# Altium schematic symbol library FC_v2.0_Schlib.SchLib: 45 symbols (part 1 of 2)
Pins are listed as number, name and electrical type; pins without a type are passive.

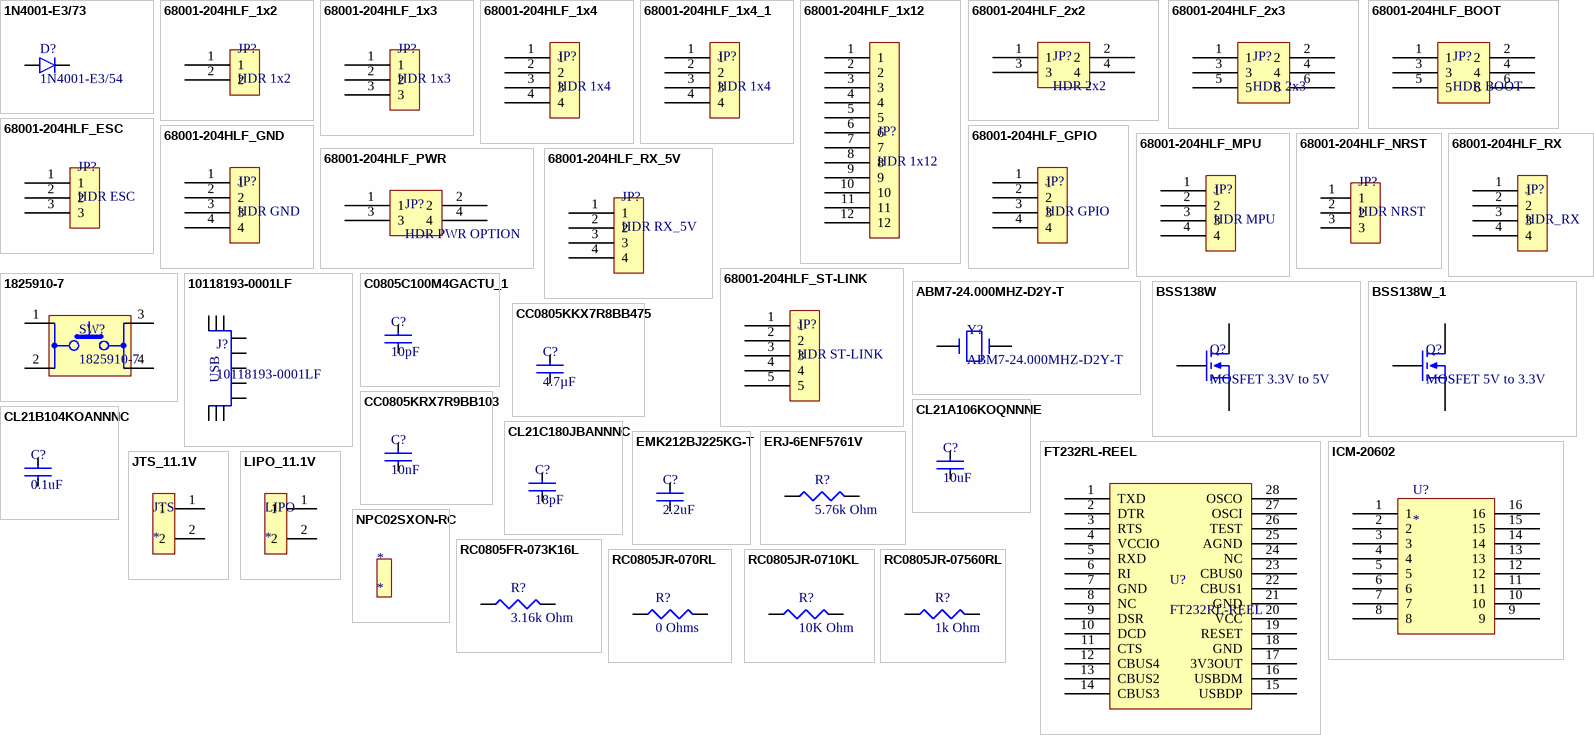
[diagram p0: symbols 1N4001-E3/73 to RC0805JR-07560RL]

## 1N4001-E3/73
designator D?, comment 1N4001-E3/54
Rectifiers Vr/50V Io/1A; Manufacturer: Vishay Semiconductors; Manufacturer Part Number: 1N4001-E3/73; Configuration: Single; Forward Voltage Drop: 1.1 V; Forward Continuous Current: 1 A; Max Surge Current: 30 A; Reverse Voltage: 50 V; Reverse Current IR: 5 uA; Supplier 1: Digi-Key; Stock 1: 13599; Pricing 1: 1=0.26, 10=0.209, 25=0.1752, 100=0.111, 250=0.0856, 500=0.073, 1000=0.0496 (USD); Factory Pack Quantity: 3000; Product Category: Rectifiers; Product: Standard Recovery Rectifiers; Mounting Style: Through Hole; Package / Case: DO-41; Packaging: Ammo; Maximum Operating Temperature: + 150 C; Minimum Operating Temperature: - 50 C; Part # Aliases: 1N4001-E3/54; RoHS: Details; ComponentLink1URL: https://datasheet.ciiva.com/15190/getdatasheetpartid-362633-15190388.pdf; ComponentLink1Description: https://datasheet.ciiva.com/15190/getdatasheetpartid-362633-15190388.pdf; ComponentLink2URL: https://datasheet.ciiva.com/46383/1911658-46383800.pdf; ComponentLink2Description: https://datasheet.ciiva.com/46383/1911658-46383800.pdf; ComponentLink3URL: https://datasheet.ciiva.com/25936/1n4001-25936157.pdf; ComponentLink3Description: https://datasheet.ciiva.com/25936/1n4001-25936157.pdf; ComponentLink4URL: https://datasheet.ciiva.com/22685/1911658-22685727.pdf; ComponentLink4Description: https://datasheet.ciiva.com/22685/1911658-22685727.pdf; Supplier Part Number 1: 1N4001-E3/73GICT-ND
footprint DIODE
pins: 1, 2

## 68001-204HLF_1x2
designator JP?, comment HDR 1x2
4 Positions Header, Unshrouded Connector 0.100" (2.54mm) Through Hole Gold or Gold, GXT™; Manufacturer: Amphenol FCI; Manufacturer Part Number: 68001-204HLF; Rad Hard: No; Number of Contacts: 4; Supplier 1: Digi-Key; Stock 1: 9668; Pricing 1: 1=0.35, 10=0.331, 100=0.2315, 500=0.1985, 1000=0.1654, 5000=0.1418, 10000=0.1323 (USD); Packaging: Bulk; Type: Unshrouded Header; Pitch: 2.54 mm; Number of Rows: 1; Gender: HDR; Contact Plating: Gold Over Nickel|GXT Over Nickel; Termination Method: Solder; Category: Connector Headers and PCB Receptacles; ComponentLink1URL: https://datasheet.ciiva.com/726/68000-726529.pdf; ComponentLink1Description: https://datasheet.ciiva.com/726/68000-726529.pdf; ComponentLink2URL: https://datasheet.ciiva.com/5164/68000-274255-5164127.pdf; ComponentLink2Description: https://datasheet.ciiva.com/5164/68000-274255-5164127.pdf; Supplier Part Number 1: 609-3402-ND
footprint HDR_Male_1x2
pins: 1, 2

## 68001-204HLF_1x3
designator JP?, comment HDR 1x3
4 Positions Header, Unshrouded Connector 0.100" (2.54mm) Through Hole Gold or Gold, GXT™; Manufacturer: Amphenol FCI; Manufacturer Part Number: 68001-204HLF; Rad Hard: No; Number of Contacts: 4; Supplier 1: Digi-Key; Stock 1: 9668; Pricing 1: 1=0.35, 10=0.331, 100=0.2315, 500=0.1985, 1000=0.1654, 5000=0.1418, 10000=0.1323 (USD); Packaging: Bulk; Type: Unshrouded Header; Pitch: 2.54 mm; Number of Rows: 1; Gender: HDR; Contact Plating: Gold Over Nickel|GXT Over Nickel; Termination Method: Solder; Category: Connector Headers and PCB Receptacles; ComponentLink1URL: https://datasheet.ciiva.com/726/68000-726529.pdf; ComponentLink1Description: https://datasheet.ciiva.com/726/68000-726529.pdf; ComponentLink2URL: https://datasheet.ciiva.com/5164/68000-274255-5164127.pdf; ComponentLink2Description: https://datasheet.ciiva.com/5164/68000-274255-5164127.pdf; Supplier Part Number 1: 609-3402-ND
footprint HDR_Male_1x3
pins: 1, 2, 3

## 68001-204HLF_1x4
designator JP?, comment HDR 1x4
4 Positions Header, Unshrouded Connector 0.100" (2.54mm) Through Hole Gold or Gold, GXT™; Manufacturer: Amphenol FCI; Manufacturer Part Number: 68001-204HLF; Rad Hard: No; Number of Contacts: 4; Supplier 1: Digi-Key; Stock 1: 9668; Pricing 1: 1=0.35, 10=0.331, 100=0.2315, 500=0.1985, 1000=0.1654, 5000=0.1418, 10000=0.1323 (USD); Packaging: Bulk; Type: Unshrouded Header; Pitch: 2.54 mm; Number of Rows: 1; Gender: HDR; Contact Plating: Gold Over Nickel|GXT Over Nickel; Termination Method: Solder; Category: Connector Headers and PCB Receptacles; ComponentLink1URL: https://datasheet.ciiva.com/726/68000-726529.pdf; ComponentLink1Description: https://datasheet.ciiva.com/726/68000-726529.pdf; ComponentLink2URL: https://datasheet.ciiva.com/5164/68000-274255-5164127.pdf; ComponentLink2Description: https://datasheet.ciiva.com/5164/68000-274255-5164127.pdf; Supplier Part Number 1: 609-3402-ND
footprint HDR_Male_1x4
pins: 1, 2, 3, 4

## 68001-204HLF_1x4_1
designator JP?, comment HDR 1x4
4 Positions Header, Unshrouded Connector 0.100" (2.54mm) Through Hole Gold or Gold, GXT™; Manufacturer: Amphenol FCI; Manufacturer Part Number: 68001-204HLF; Rad Hard: No; Number of Contacts: 4; Supplier 1: Digi-Key; Stock 1: 9668; Pricing 1: 1=0.35, 10=0.331, 100=0.2315, 500=0.1985, 1000=0.1654, 5000=0.1418, 10000=0.1323 (USD); Packaging: Bulk; Type: Unshrouded Header; Pitch: 2.54 mm; Number of Rows: 1; Gender: HDR; Contact Plating: Gold Over Nickel|GXT Over Nickel; Termination Method: Solder; Category: Connector Headers and PCB Receptacles; ComponentLink1URL: https://datasheet.ciiva.com/726/68000-726529.pdf; ComponentLink1Description: https://datasheet.ciiva.com/726/68000-726529.pdf; ComponentLink2URL: https://datasheet.ciiva.com/5164/68000-274255-5164127.pdf; ComponentLink2Description: https://datasheet.ciiva.com/5164/68000-274255-5164127.pdf; Supplier Part Number 1: 609-3402-ND
footprint HDR_Male_1x4
pins: 1, 2, 3, 4

## 68001-204HLF_1x12
designator JP?, comment HDR 1x12
4 Positions Header, Unshrouded Connector 0.100" (2.54mm) Through Hole Gold or Gold, GXT™; Manufacturer: Amphenol FCI; Manufacturer Part Number: 68001-204HLF; Rad Hard: No; Number of Contacts: 4; Supplier 1: Digi-Key; Stock 1: 9668; Pricing 1: 1=0.35, 10=0.331, 100=0.2315, 500=0.1985, 1000=0.1654, 5000=0.1418, 10000=0.1323 (USD); Packaging: Bulk; Type: Unshrouded Header; Pitch: 2.54 mm; Number of Rows: 1; Gender: HDR; Contact Plating: Gold Over Nickel|GXT Over Nickel; Termination Method: Solder; Category: Connector Headers and PCB Receptacles; ComponentLink1URL: https://datasheet.ciiva.com/726/68000-726529.pdf; ComponentLink1Description: https://datasheet.ciiva.com/726/68000-726529.pdf; ComponentLink2URL: https://datasheet.ciiva.com/5164/68000-274255-5164127.pdf; ComponentLink2Description: https://datasheet.ciiva.com/5164/68000-274255-5164127.pdf; Supplier Part Number 1: 609-3402-ND
footprint HDR_Male_1x12
pins: 1, 2, 3, 4, 5, 6, 7, 8, 9, 10, 11, 12

## 68001-204HLF_2x2
designator JP?, comment HDR 2x2
4 Positions Header, Unshrouded Connector 0.100" (2.54mm) Through Hole Gold or Gold, GXT™; Manufacturer: Amphenol FCI; Manufacturer Part Number: 68001-204HLF; Rad Hard: No; Number of Contacts: 4; Supplier 1: Digi-Key; Stock 1: 9668; Pricing 1: 1=0.35, 10=0.331, 100=0.2315, 500=0.1985, 1000=0.1654, 5000=0.1418, 10000=0.1323 (USD); Packaging: Bulk; Type: Unshrouded Header; Pitch: 2.54 mm; Number of Rows: 1; Gender: HDR; Contact Plating: Gold Over Nickel|GXT Over Nickel; Termination Method: Solder; Category: Connector Headers and PCB Receptacles; ComponentLink1URL: https://datasheet.ciiva.com/726/68000-726529.pdf; ComponentLink1Description: https://datasheet.ciiva.com/726/68000-726529.pdf; ComponentLink2URL: https://datasheet.ciiva.com/5164/68000-274255-5164127.pdf; ComponentLink2Description: https://datasheet.ciiva.com/5164/68000-274255-5164127.pdf; Supplier Part Number 1: 609-3402-ND
footprint HDR_MALE_PWR_OPTION
pins: 1, 2, 3, 4

## 68001-204HLF_2x3
designator JP?, comment HDR 2x3
4 Positions Header, Unshrouded Connector 0.100" (2.54mm) Through Hole Gold or Gold, GXT™; Manufacturer: Amphenol FCI; Manufacturer Part Number: 68001-204HLF; Rad Hard: No; Number of Contacts: 4; Supplier 1: Digi-Key; Stock 1: 9668; Pricing 1: 1=0.35, 10=0.331, 100=0.2315, 500=0.1985, 1000=0.1654, 5000=0.1418, 10000=0.1323 (USD); Packaging: Bulk; Type: Unshrouded Header; Pitch: 2.54 mm; Number of Rows: 1; Gender: HDR; Contact Plating: Gold Over Nickel|GXT Over Nickel; Termination Method: Solder; Category: Connector Headers and PCB Receptacles; ComponentLink1URL: https://datasheet.ciiva.com/726/68000-726529.pdf; ComponentLink1Description: https://datasheet.ciiva.com/726/68000-726529.pdf; ComponentLink2URL: https://datasheet.ciiva.com/5164/68000-274255-5164127.pdf; ComponentLink2Description: https://datasheet.ciiva.com/5164/68000-274255-5164127.pdf; Supplier Part Number 1: 609-3402-ND
footprint HDR_MALE_2x3
pins: 1, 2, 3, 4, 5, 6

## 68001-204HLF_BOOT
designator JP?, comment HDR BOOT
4 Positions Header, Unshrouded Connector 0.100" (2.54mm) Through Hole Gold or Gold, GXT™; Manufacturer: Amphenol FCI; Manufacturer Part Number: 68001-204HLF; Rad Hard: No; Number of Contacts: 4; Supplier 1: Digi-Key; Stock 1: 9668; Pricing 1: 1=0.35, 10=0.331, 100=0.2315, 500=0.1985, 1000=0.1654, 5000=0.1418, 10000=0.1323 (USD); Packaging: Bulk; Type: Unshrouded Header; Pitch: 2.54 mm; Number of Rows: 1; Gender: HDR; Contact Plating: Gold Over Nickel|GXT Over Nickel; Termination Method: Solder; Category: Connector Headers and PCB Receptacles; ComponentLink1URL: https://datasheet.ciiva.com/726/68000-726529.pdf; ComponentLink1Description: https://datasheet.ciiva.com/726/68000-726529.pdf; ComponentLink2URL: https://datasheet.ciiva.com/5164/68000-274255-5164127.pdf; ComponentLink2Description: https://datasheet.ciiva.com/5164/68000-274255-5164127.pdf; Supplier Part Number 1: 609-3402-ND
footprint HDR_MALE_BOOT
pins: 1, 2, 3, 4, 5, 6

## 68001-204HLF_ESC
designator JP?, comment HDR ESC
4 Positions Header, Unshrouded Connector 0.100" (2.54mm) Through Hole Gold or Gold, GXT™; Manufacturer: Amphenol FCI; Manufacturer Part Number: 68001-204HLF; Rad Hard: No; Number of Contacts: 4; Supplier 1: Digi-Key; Stock 1: 9668; Pricing 1: 1=0.35, 10=0.331, 100=0.2315, 500=0.1985, 1000=0.1654, 5000=0.1418, 10000=0.1323 (USD); Packaging: Bulk; Type: Unshrouded Header; Pitch: 2.54 mm; Number of Rows: 1; Gender: HDR; Contact Plating: Gold Over Nickel|GXT Over Nickel; Termination Method: Solder; Category: Connector Headers and PCB Receptacles; ComponentLink1URL: https://datasheet.ciiva.com/726/68000-726529.pdf; ComponentLink1Description: https://datasheet.ciiva.com/726/68000-726529.pdf; ComponentLink2URL: https://datasheet.ciiva.com/5164/68000-274255-5164127.pdf; ComponentLink2Description: https://datasheet.ciiva.com/5164/68000-274255-5164127.pdf; Supplier Part Number 1: 609-3402-ND
footprint HDR_Male_ESC
pins: 1, 2, 3

## 68001-204HLF_GND
designator JP?, comment HDR GND
4 Positions Header, Unshrouded Connector 0.100" (2.54mm) Through Hole Gold or Gold, GXT™; Manufacturer: Amphenol FCI; Manufacturer Part Number: 68001-204HLF; Rad Hard: No; Number of Contacts: 4; Supplier 1: Digi-Key; Stock 1: 9668; Pricing 1: 1=0.35, 10=0.331, 100=0.2315, 500=0.1985, 1000=0.1654, 5000=0.1418, 10000=0.1323 (USD); Packaging: Bulk; Type: Unshrouded Header; Pitch: 2.54 mm; Number of Rows: 1; Gender: HDR; Contact Plating: Gold Over Nickel|GXT Over Nickel; Termination Method: Solder; Category: Connector Headers and PCB Receptacles; ComponentLink1URL: https://datasheet.ciiva.com/726/68000-726529.pdf; ComponentLink1Description: https://datasheet.ciiva.com/726/68000-726529.pdf; ComponentLink2URL: https://datasheet.ciiva.com/5164/68000-274255-5164127.pdf; ComponentLink2Description: https://datasheet.ciiva.com/5164/68000-274255-5164127.pdf; Supplier Part Number 1: 609-3402-ND
footprint HDR_Male_GND
pins: 1, 2, 3, 4

## 68001-204HLF_GPIO
designator JP?, comment HDR GPIO
4 Positions Header, Unshrouded Connector 0.100" (2.54mm) Through Hole Gold or Gold, GXT™; Manufacturer: Amphenol FCI; Manufacturer Part Number: 68001-204HLF; Rad Hard: No; Number of Contacts: 4; Supplier 1: Digi-Key; Stock 1: 9668; Pricing 1: 1=0.35, 10=0.331, 100=0.2315, 500=0.1985, 1000=0.1654, 5000=0.1418, 10000=0.1323 (USD); Packaging: Bulk; Type: Unshrouded Header; Pitch: 2.54 mm; Number of Rows: 1; Gender: HDR; Contact Plating: Gold Over Nickel|GXT Over Nickel; Termination Method: Solder; Category: Connector Headers and PCB Receptacles; ComponentLink1URL: https://datasheet.ciiva.com/726/68000-726529.pdf; ComponentLink1Description: https://datasheet.ciiva.com/726/68000-726529.pdf; ComponentLink2URL: https://datasheet.ciiva.com/5164/68000-274255-5164127.pdf; ComponentLink2Description: https://datasheet.ciiva.com/5164/68000-274255-5164127.pdf; Supplier Part Number 1: 609-3402-ND
footprint HDR_Male_GPIO
pins: 1, 2, 3, 4

## 68001-204HLF_MPU
designator JP?, comment HDR MPU
4 Positions Header, Unshrouded Connector 0.100" (2.54mm) Through Hole Gold or Gold, GXT™; Manufacturer: Amphenol FCI; Manufacturer Part Number: 68001-204HLF; Rad Hard: No; Number of Contacts: 4; Supplier 1: Digi-Key; Stock 1: 9668; Pricing 1: 1=0.35, 10=0.331, 100=0.2315, 500=0.1985, 1000=0.1654, 5000=0.1418, 10000=0.1323 (USD); Packaging: Bulk; Type: Unshrouded Header; Pitch: 2.54 mm; Number of Rows: 1; Gender: HDR; Contact Plating: Gold Over Nickel|GXT Over Nickel; Termination Method: Solder; Category: Connector Headers and PCB Receptacles; ComponentLink1URL: https://datasheet.ciiva.com/726/68000-726529.pdf; ComponentLink1Description: https://datasheet.ciiva.com/726/68000-726529.pdf; ComponentLink2URL: https://datasheet.ciiva.com/5164/68000-274255-5164127.pdf; ComponentLink2Description: https://datasheet.ciiva.com/5164/68000-274255-5164127.pdf; Supplier Part Number 1: 609-3402-ND
footprint HDR_Male_MPU
pins: 1, 2, 3, 4

## 68001-204HLF_NRST
designator JP?, comment HDR NRST
4 Positions Header, Unshrouded Connector 0.100" (2.54mm) Through Hole Gold or Gold, GXT™; Manufacturer: Amphenol FCI; Manufacturer Part Number: 68001-204HLF; Rad Hard: No; Number of Contacts: 4; Supplier 1: Digi-Key; Stock 1: 9668; Pricing 1: 1=0.35, 10=0.331, 100=0.2315, 500=0.1985, 1000=0.1654, 5000=0.1418, 10000=0.1323 (USD); Packaging: Bulk; Type: Unshrouded Header; Pitch: 2.54 mm; Number of Rows: 1; Gender: HDR; Contact Plating: Gold Over Nickel|GXT Over Nickel; Termination Method: Solder; Category: Connector Headers and PCB Receptacles; ComponentLink1URL: https://datasheet.ciiva.com/726/68000-726529.pdf; ComponentLink1Description: https://datasheet.ciiva.com/726/68000-726529.pdf; ComponentLink2URL: https://datasheet.ciiva.com/5164/68000-274255-5164127.pdf; ComponentLink2Description: https://datasheet.ciiva.com/5164/68000-274255-5164127.pdf; Supplier Part Number 1: 609-3402-ND
footprint HDR_Male_NRST
pins: 1, 2, 3

## 68001-204HLF_PWR
designator JP?, comment HDR PWR OPTION
4 Positions Header, Unshrouded Connector 0.100" (2.54mm) Through Hole Gold or Gold, GXT™; Manufacturer: Amphenol FCI; Manufacturer Part Number: 68001-204HLF; Rad Hard: No; Number of Contacts: 4; Supplier 1: Digi-Key; Stock 1: 9668; Pricing 1: 1=0.35, 10=0.331, 100=0.2315, 500=0.1985, 1000=0.1654, 5000=0.1418, 10000=0.1323 (USD); Packaging: Bulk; Type: Unshrouded Header; Pitch: 2.54 mm; Number of Rows: 1; Gender: HDR; Contact Plating: Gold Over Nickel|GXT Over Nickel; Termination Method: Solder; Category: Connector Headers and PCB Receptacles; ComponentLink1URL: https://datasheet.ciiva.com/726/68000-726529.pdf; ComponentLink1Description: https://datasheet.ciiva.com/726/68000-726529.pdf; ComponentLink2URL: https://datasheet.ciiva.com/5164/68000-274255-5164127.pdf; ComponentLink2Description: https://datasheet.ciiva.com/5164/68000-274255-5164127.pdf; Supplier Part Number 1: 609-3402-ND
footprint HDR_MALE_PWR_OPTION
pins: 1, 2, 3, 4

## 68001-204HLF_RX
designator JP?, comment HDR_RX
4 Positions Header, Unshrouded Connector 0.100" (2.54mm) Through Hole Gold or Gold, GXT™; Manufacturer: Amphenol FCI; Manufacturer Part Number: 68001-204HLF; Rad Hard: No; Number of Contacts: 4; Gender: HDR; Supplier 1: Digi-Key; Stock 1: 9668; Pricing 1: 1=0.35, 10=0.331, 100=0.2315, 500=0.1985, 1000=0.1654, 5000=0.1418, 10000=0.1323 (USD); Packaging: Bulk; Type: Unshrouded Header; Pitch: 2.54 mm; Number of Rows: 1; Contact Plating: Gold Over Nickel|GXT Over Nickel; Termination Method: Solder; Category: Connector Headers and PCB Receptacles; ComponentLink1URL: https://datasheet.ciiva.com/726/68000-726529.pdf; ComponentLink1Description: https://datasheet.ciiva.com/726/68000-726529.pdf; ComponentLink2URL: https://datasheet.ciiva.com/5164/68000-274255-5164127.pdf; ComponentLink2Description: https://datasheet.ciiva.com/5164/68000-274255-5164127.pdf; Supplier Part Number 1: 609-3402-ND
footprint HDR_Male_RX
pins: 1, 2, 3, 4

## 68001-204HLF_RX_5V
designator JP?, comment HDR RX_5V
4 Positions Header, Unshrouded Connector 0.100" (2.54mm) Through Hole Gold or Gold, GXT™; Manufacturer: Amphenol FCI; Manufacturer Part Number: 68001-204HLF; Rad Hard: No; Number of Contacts: 4; Supplier 1: Digi-Key; Stock 1: 9668; Pricing 1: 1=0.35, 10=0.331, 100=0.2315, 500=0.1985, 1000=0.1654, 5000=0.1418, 10000=0.1323 (USD); Packaging: Bulk; Type: Unshrouded Header; Pitch: 2.54 mm; Number of Rows: 1; Gender: HDR; Contact Plating: Gold Over Nickel|GXT Over Nickel; Termination Method: Solder; Category: Connector Headers and PCB Receptacles; ComponentLink1URL: https://datasheet.ciiva.com/726/68000-726529.pdf; ComponentLink1Description: https://datasheet.ciiva.com/726/68000-726529.pdf; ComponentLink2URL: https://datasheet.ciiva.com/5164/68000-274255-5164127.pdf; ComponentLink2Description: https://datasheet.ciiva.com/5164/68000-274255-5164127.pdf; Supplier Part Number 1: 609-3402-ND
footprint HDR_Male_RX_5V
pins: 1, 2, 3, 4

## 68001-204HLF_ST-LINK
designator JP?, comment HDR ST-LINK
4 Positions Header, Unshrouded Connector 0.100" (2.54mm) Through Hole Gold or Gold, GXT™; Manufacturer: Amphenol FCI; Manufacturer Part Number: 68001-204HLF; Rad Hard: No; Number of Contacts: 4; Supplier 1: Digi-Key; Stock 1: 9668; Pricing 1: 1=0.35, 10=0.331, 100=0.2315, 500=0.1985, 1000=0.1654, 5000=0.1418, 10000=0.1323 (USD); Packaging: Bulk; Type: Unshrouded Header; Pitch: 2.54 mm; Number of Rows: 1; Gender: HDR; Contact Plating: Gold Over Nickel|GXT Over Nickel; Termination Method: Solder; Category: Connector Headers and PCB Receptacles; ComponentLink1URL: https://datasheet.ciiva.com/726/68000-726529.pdf; ComponentLink1Description: https://datasheet.ciiva.com/726/68000-726529.pdf; ComponentLink2URL: https://datasheet.ciiva.com/5164/68000-274255-5164127.pdf; ComponentLink2Description: https://datasheet.ciiva.com/5164/68000-274255-5164127.pdf; Supplier Part Number 1: 609-3402-ND
footprint HDR_Male_ST-LINK
pins: 1, 2, 3, 4, 5

## 1825910-7
designator SW?
Switch Tactile OFF (ON) SPST Round Button PC Pins 0.05A 24VDC 100000Cycles 2.55N Thru-Hole Loose Piece; Manufacturer: TE Connectivity; Actuator Color: Red; Actuator Length: 1.4 mm; Body Orientation: Straight; Ground Terminal: No; Dielectric Strength: 500 VAC; Contact Rating @ Voltage: 0.05@24VDC A; Maximum DC Voltage Rating: 24 V; Seal Description: N/R; Maximum Contact Resistance: 100 mOhm; Supplier 1: Digi-Key; Manufacturer Part Number: 1825910-7; Stock 1: 68629; Pricing 1: 1=0.1, 10=0.086, 25=0.0832, 50=0.0804, 100=0.0759, 250=0.0715, 500=0.0685, 1000=0.0521, 5000=0.0432 (USD); Contact Material: Copper Alloy; Base Material: N/A; Actuator Style: Round Button; Family: 1825910; Contact Plating: Silver; Electrical Life: 100000 Cycles; Housing Material: N/A; Dimension: 5.99 x 7.8 x 5 mm; Part No: 1825910-7; RoHS: Yes; Maximum AC Voltage Rating: N/A; Pole Throw Configuration: SPST; Mechanical Life: 100000 Cycles; Packaging: Loose Piece; Illumination Type: N/R; Product Weight: N/A; Mounting: Through Hole,PC Pins; Operating Force: 2.55 N; Minimum Insulation Resistance: 100 MOhm; Operating Temperature: -35 to 85 C; Type: N/A; Switch Configuration: OFF (ON); Seal Location: N/R; ComponentLink1URL: https://datasheet.ciiva.com/30117/17-30117153.pdf; ComponentLink1Description: https://datasheet.ciiva.com/30117/17-30117153.pdf; ComponentLink2URL: https://datasheet.ciiva.com/16312/1825910-7-16312610.pdf; ComponentLink2Description: https://datasheet.ciiva.com/16312/1825910-7-16312610.pdf; ComponentLink3URL: https://datasheet.ciiva.com/16987/0900766b808a3755-16987820.pdf; ComponentLink3Description: https://datasheet.ciiva.com/16987/0900766b808a3755-16987820.pdf; Supplier Part Number 1: 450-1804-ND
footprint 1825910-6
pins: 1, 2, 3, 4

## 10118193-0001LF
designator J?
USB - micro B USB 2.0 Receptacle Connector 5 Position Surface Mount, Right Angle, Horizontal; Manufacturer: Amphenol FCI; Number of Contacts: 5 Contact; Gender: Female; Current Rating: 1.8 A; Brand: FCI; Connector Type: Micro USB Type B receptacle; Insulation Resistance: 1000 MOhms; Supplier 1: Digi-Key; Manufacturer Part Number: 10118193-0001LF; Stock 1: 72264; Pricing 1: 1=0.46, 10=0.437, 25=0.3744, 50=0.318, 100=0.3056, 250=0.2744, 500=0.262 (USD); Product Category: USB Connectors; RoHS: Details; Product: Micro USB Type B Connectors; Standard: USB 2.0; Termination Style: SMD/SMT; Color: Black; Contact Material: Copper Alloy; Contact Plating: Gold; Flammability Rating: UL 94 V-0; Mounting Angle: Right; Operating Temperature Range: - 55 C to + 85 C; Packaging: Reel; Factory Pack Quantity: 1200; ComponentLink1URL: https://datasheet.ciiva.com/851/10118193-851106.pdf; ComponentLink1Description: https://datasheet.ciiva.com/851/10118193-851106.pdf; ComponentLink2URL: https://datasheet.ciiva.com/14802/10118193-0001lf-webpage-14802386.pdf; ComponentLink2Description: https://datasheet.ciiva.com/14802/10118193-0001lf-webpage-14802386.pdf; ComponentLink3URL: https://datasheet.ciiva.com/851/10118193-851107.pdf; ComponentLink3Description: https://datasheet.ciiva.com/851/10118193-851107.pdf; ComponentLink4URL: https://datasheet.ciiva.com/851/10118193-851108.pdf; ComponentLink4Description: https://datasheet.ciiva.com/851/10118193-851108.pdf; ComponentLink5URL: https://datasheet.ciiva.com/26853/getdatasheetpartid-418618-26853893.pdf; ComponentLink5Description: https://datasheet.ciiva.com/26853/getdatasheetpartid-418618-26853893.pdf; ComponentLink6URL: https://datasheet.ciiva.com/14618/70236827-14618887.pdf; ComponentLink6Description: https://datasheet.ciiva.com/14618/70236827-14618887.pdf; ComponentLink7URL: https://datasheet.ciiva.com/4598/10118193ac-197151-4598799.pdf; ComponentLink7Description: https://datasheet.ciiva.com/4598/10118193ac-197151-4598799.pdf; Supplier Part Number 1: 609-4616-1-ND
footprint 10118193
pins: 1, 2, 3, 4, 5, 6, 7, 8, 9, 10, 11
text: USB

## ABM7-24.000MHZ-D2Y-T
designator Y?
ABRACON         ABM7-24.000MHZ-D2Y-T             CRYSTAL, 24MHZ, 18PF, 6 X 3.5MM; Catalog Drawings: ABM7 Series Top / ABM7 Series Side / ABM7 Series Bottom; Featured Product: ABM7 and ABM11 Crystals; 3D Model: ABM7.pdf / ABM7.stp; Frequency Stability: ±30ppm; Frequency Tolerance: ±20ppm; ESR (Equivalent Series Resistance): 50 Ohm; Operating Mode: Fundamental; Online Catalog: ABM7 Series; Other Names: 535-9845-1; Supplier 1: Digi-Key; Manufacturer: Abracon; Manufacturer Part Number: ABM7-24.000MHZ-D2Y-T; Stock 1: 33141; Pricing 1: 1=0.72, 10=0.633, 50=0.5912, 100=0.5225, 500=0.495 (USD); RoHS Information: RoHS2/REACH Compliance; Standard Package: 1; Category: Crystals and Oscillators; Family: Crystals; Series: ABM7; Packaging: Cut Tape (CT); Type: MHz Crystal; Frequency: 24MHz; Load Capacitance: 18pF; Operating Temperature: -40°C ~ 85°C; Mounting Type: Surface Mount; Package / Case: 2-SMD; Size / Dimension: 0.236" L x 0.138" W (6.00mm x 3.50mm); Height: 0.055" (1.40mm); ComponentLink1URL: https://datasheet.ciiva.com/15116/getdatasheetpartid-635354-15116657.pdf; ComponentLink1Description: https://datasheet.ciiva.com/15116/getdatasheetpartid-635354-15116657.pdf; ComponentLink2URL: https://datasheet.ciiva.com/29882/abm10-29882758.pdf; ComponentLink2Description: https://datasheet.ciiva.com/29882/abm10-29882758.pdf; ComponentLink3URL: https://datasheet.ciiva.com/46394/947971-46394791.pdf; ComponentLink3Description: https://datasheet.ciiva.com/46394/947971-46394791.pdf; ComponentLink4URL: https://datasheet.ciiva.com/4944/abm7-19096-4944473.pdf; ComponentLink4Description: https://datasheet.ciiva.com/4944/abm7-19096-4944473.pdf; ComponentLink5URL: https://datasheet.ciiva.com/1357/947971-1357274.pdf; ComponentLink5Description: https://datasheet.ciiva.com/1357/947971-1357274.pdf; ComponentLink6URL: https://datasheet.ciiva.com/18649/abm7-18649883.pdf; ComponentLink6Description: https://datasheet.ciiva.com/18649/abm7-18649883.pdf; ComponentLink7URL: https://datasheet.ciiva.com/16741/abm7-16741964.pdf; ComponentLink7Description: https://datasheet.ciiva.com/16741/abm7-16741964.pdf; ComponentLink8URL: https://datasheet.ciiva.com/18649/abm7-18649884.pdf; ComponentLink8Description: https://datasheet.ciiva.com/18649/abm7-18649884.pdf; ComponentLink9URL: https://datasheet.ciiva.com/18649/abm7-18649885.pdf; ComponentLink9Description: https://datasheet.ciiva.com/18649/abm7-18649885.pdf; ComponentLink10URL: https://datasheet.ciiva.com/7998/947971-7998607.pdf; ComponentLink10Description: https://datasheet.ciiva.com/7998/947971-7998607.pdf; Supplier Part Number 1: 535-9845-1-ND
footprint AMB7_v1_0_BIG
pins: 1, 2

## BSS138W
designator Q?, comment MOSFET 3.3V to 5V
MOSFET 50V N-CH Logic Level; Manufacturer: Fairchild Semiconductor; Manufacturer Part Number: BSS138W; Channel Type: N-Channel; Drain-Source On Resistance-Max: 3.5 O; Qg Gate Charge: 1.1 nC; Rated Power Dissipation: 340 mW; Supplier 1: Digi-Key; Stock 1: 13378; Pricing 1: 1=0.44, 10=0.317, 100=0.1867, 500=0.1057, 1000=0.081 (USD); Drain-to-Source Voltage [Vdss]: 50 V; ComponentLink1URL: https://datasheet.ciiva.com/17170/bss138w-17170739.pdf; ComponentLink1Description: https://datasheet.ciiva.com/17170/bss138w-17170739.pdf; ComponentLink2URL: https://datasheet.ciiva.com/8115/bss138w-8115367.pdf; ComponentLink2Description: https://datasheet.ciiva.com/8115/bss138w-8115367.pdf; ComponentLink3URL: https://datasheet.ciiva.com/15043/bss138w-15043927.pdf; ComponentLink3Description: https://datasheet.ciiva.com/15043/bss138w-15043927.pdf; ComponentLink4URL: https://datasheet.ciiva.com/15043/bss138w-15043928.pdf; ComponentLink4Description: https://datasheet.ciiva.com/15043/bss138w-15043928.pdf; ComponentLink5URL: https://datasheet.ciiva.com/15043/bss138w-15043929.pdf; ComponentLink5Description: https://datasheet.ciiva.com/15043/bss138w-15043929.pdf; ComponentLink6URL: https://datasheet.ciiva.com/8115/bss138w-8115370.pdf; ComponentLink6Description: https://datasheet.ciiva.com/8115/bss138w-8115370.pdf; ComponentLink7URL: https://datasheet.ciiva.com/26146/bss138w-26146843.pdf; ComponentLink7Description: https://datasheet.ciiva.com/26146/bss138w-26146843.pdf; ComponentLink8URL: https://datasheet.ciiva.com/13042/bss138w-91619-13042909.pdf; ComponentLink8Description: https://datasheet.ciiva.com/13042/bss138w-91619-13042909.pdf; Supplier Part Number 1: BSS138WCT-ND
footprint MOSFET
pins: 1, 2, 3

## BSS138W_1
designator Q?, comment MOSFET 5V to 3.3V
MOSFET 50V N-CH Logic Level; Manufacturer: Fairchild Semiconductor; Manufacturer Part Number: BSS138W; Channel Type: N-Channel; Drain-Source On Resistance-Max: 3.5 O; Qg Gate Charge: 1.1 nC; Rated Power Dissipation: 340 mW; Supplier 1: Digi-Key; Stock 1: 13378; Pricing 1: 1=0.44, 10=0.317, 100=0.1867, 500=0.1057, 1000=0.081 (USD); Drain-to-Source Voltage [Vdss]: 50 V; ComponentLink1URL: https://datasheet.ciiva.com/17170/bss138w-17170739.pdf; ComponentLink1Description: https://datasheet.ciiva.com/17170/bss138w-17170739.pdf; ComponentLink2URL: https://datasheet.ciiva.com/8115/bss138w-8115367.pdf; ComponentLink2Description: https://datasheet.ciiva.com/8115/bss138w-8115367.pdf; ComponentLink3URL: https://datasheet.ciiva.com/15043/bss138w-15043927.pdf; ComponentLink3Description: https://datasheet.ciiva.com/15043/bss138w-15043927.pdf; ComponentLink4URL: https://datasheet.ciiva.com/15043/bss138w-15043928.pdf; ComponentLink4Description: https://datasheet.ciiva.com/15043/bss138w-15043928.pdf; ComponentLink5URL: https://datasheet.ciiva.com/15043/bss138w-15043929.pdf; ComponentLink5Description: https://datasheet.ciiva.com/15043/bss138w-15043929.pdf; ComponentLink6URL: https://datasheet.ciiva.com/8115/bss138w-8115370.pdf; ComponentLink6Description: https://datasheet.ciiva.com/8115/bss138w-8115370.pdf; ComponentLink7URL: https://datasheet.ciiva.com/26146/bss138w-26146843.pdf; ComponentLink7Description: https://datasheet.ciiva.com/26146/bss138w-26146843.pdf; ComponentLink8URL: https://datasheet.ciiva.com/13042/bss138w-91619-13042909.pdf; ComponentLink8Description: https://datasheet.ciiva.com/13042/bss138w-91619-13042909.pdf; Supplier Part Number 1: BSS138WCT-ND
footprint MOSFET
pins: 1, 2, 3

## C0805C100M4GACTU_1
designator C?, comment 10pF
Multilayer Ceramic Capacitors MLCC - SMD/SMT 16volts 10pF C0G 20%; Manufacturer: KEMET; Manufacturer Part Number: C0805C100M4GACTU; Capacitor Case Style: 0805 [2012 Metric]; Dielectric Characteristic: C0G / NP0; Product Range: KEMET - C Series; SVHC: No SVHC (16-Jun-2014); Voltage Rating: 16V; Supplier 1: Digi-Key; Stock 1: 12641; Pricing 1: 1=0.1, 10=0.064, 100=0.0285, 500=0.0204, 1000=0.016 (USD); Capacitance: 10pF; Capacitance Tolerance: ± 20%; Ceramic Capacitor Case: 0805 [2012 Metric]; MSL: MSL 1 - Unlimited; Operating Temperature Max: 125°C; Operating Temperature Min: -55°C; Packaging: Cut Tape; ComponentLink1URL: http://www.kemet.com/Lists/ProductCatalog/Attachments/46/KEM_C1003_C0G_SMD.pdf; ComponentLink1Description: http://www.kemet.com/Lists/ProductCatalog/Attachments/46/KEM_C1003_C0G_SMD.pdf; ComponentLink2URL: http://www.kemet.com/docfinder?Partnumber=C0805C100M4GACTU; ComponentLink2Description: http://www.kemet.com/docfinder?Partnumber=C0805C100M4GACTU; ComponentLink3URL: http://capacitoredge.kemet.com/capedge2/DataSheet?pn=C0805C100M4GACTU; ComponentLink3Description: http://capacitoredge.kemet.com/capedge2/DataSheet?pn=C0805C100M4GACTU; Supplier Part Number 1: 399-9147-1-ND
footprint C0805
pins: 1, 2

## CC0805KKX7R8BB475
designator C?, comment 4.7µF
Multilayer Ceramic Capacitors MLCC - SMD/SMT 4.7M pF 10% 25 Volts; Manufacturer: Yageo; Manufacturer Part Number: CC0805KKX7R8BB475; Voltage - Rated: 25V; Temperature Coefficient: X7R; Supplier 1: Digi-Key; Stock 1: 8314; Pricing 1: 1=0.38, 10=0.263, 100=0.1578, 500=0.1183, 1000=0.0999 (USD); Category: Capacitors; Family: Ceramic Capacitors; Series: CC; Packaging: Tape &amp; Reel (TR); Capacitance: 4.7µF; Tolerance: ±10%; Mounting Type: Surface Mount, MLCC; Operating Temperature: -55°C ~ 125°C; Applications: General Purpose; Ratings: -; Package / Case: 0805 (2012 Metric); Size / Dimension: 0.079" L x 0.049" W (2.00mm x 1.25mm); Height - Seated (Max): -; Thickness (Max): 0.057" (1.45mm); Lead Spacing: -; Features: -; Lead Style: -; ComponentLink1URL: http://www.mouser.com/ds/2/447/Yageo_UPY-GP_NP0_16V-to-50V_9-358835.pdf; ComponentLink1Description: http://www.mouser.com/ds/2/447/Yageo_UPY-GP_NP0_16V-to-50V_9-358835.pdf; ComponentLink2URL: http://www.yageo.com/documents/recent/UPY-GPHC_X7R_6.3V-to-50V_18.pdf; ComponentLink2Description: http://www.yageo.com/documents/recent/UPY-GPHC_X7R_6.3V-to-50V_18.pdf; Supplier Part Number 1: 311-1885-1-ND
footprint C0805
pins: 1, 2

## CC0805KRX7R9BB103
designator C?, comment 10nF
CAP CER 10000PF 50V X7R 0805; Manufacturer: Yageo; Manufacturer Part Number: CC0805KRX7R9BB103; Product Training Modules: Multilayer Ceramic Capacitors; Catalog Drawings: CC_0805_0.6; Featured Product: Commodity Multilayer Ceramic Capacitors – CC Series; Tolerance: ±10%; Online Catalog: CC Series; Other Names: 311-1136-6; Supplier 1: Digi-Key; Stock 1: 1187328; Pricing 1: 1=0.1, 10=0.035, 100=0.0158, 500=0.0113, 1000=0.0089 (USD); Standard Package: 1; Category: Capacitors; Family: Ceramic Capacitors; Series: CC; Packaging: Digi-Reel®; Capacitance: 10000pF; Voltage - Rated: 50V; Temperature Coefficient: X7R; Mounting Type: Surface Mount, MLCC; Operating Temperature: -55°C ~ 125°C; Applications: General Purpose; Ratings: -; Package / Case: 0805 (2012 Metric); Size / Dimension: 0.079" L x 0.049" W (2.00mm x 1.25mm); Height - Seated (Max): -; Thickness (Max): 0.024" (0.60mm); Lead Spacing: -; Features: -; Lead Style: -; ComponentLink1URL: https://datasheet.ciiva.com/144/mlccorderingcode-144532.pdf; ComponentLink1Description: https://datasheet.ciiva.com/144/mlccorderingcode-144532.pdf; ComponentLink2URL: https://datasheet.ciiva.com/144/mlccorderingcode-144533.pdf; ComponentLink2Description: https://datasheet.ciiva.com/144/mlccorderingcode-144533.pdf; ComponentLink3URL: https://datasheet.ciiva.com/144/mlccorderingcode-144534.pdf; ComponentLink3Description: https://datasheet.ciiva.com/144/mlccorderingcode-144534.pdf; ComponentLink4URL: https://datasheet.ciiva.com/11786/0900766b80d84f1d-11786119.pdf; ComponentLink4Description: https://datasheet.ciiva.com/11786/0900766b80d84f1d-11786119.pdf; ComponentLink5URL: https://datasheet.ciiva.com/25613/0900766b8027bcf6-25613113.pdf; ComponentLink5Description: https://datasheet.ciiva.com/25613/0900766b8027bcf6-25613113.pdf; ComponentLink6URL: https://datasheet.ciiva.com/16625/upy-gphc-x7r-6-3v-to-50v-8-16625548.pdf; ComponentLink6Description: https://datasheet.ciiva.com/16625/upy-gphc-x7r-6-3v-to-50v-8-16625548.pdf; ComponentLink7URL: https://datasheet.ciiva.com/46372/1784427-46372638.pdf; ComponentLink7Description: https://datasheet.ciiva.com/46372/1784427-46372638.pdf; ComponentLink8URL: https://datasheet.ciiva.com/22749/1489800-22749215.pdf; ComponentLink8Description: https://datasheet.ciiva.com/22749/1489800-22749215.pdf; ComponentLink9URL: https://datasheet.ciiva.com/46372/1734573-46372639.pdf; ComponentLink9Description: https://datasheet.ciiva.com/46372/1734573-46372639.pdf; Supplier Part Number 1: 311-1136-1-ND
footprint C0805
pins: 1, 2

## CL21A106KOQNNNE
designator C?, comment 10uF
Cap Ceramic 10uF 16V X5R 10% SMD 0805 85C T/R; Manufacturer: Samsung; Manufacturer Part Number: CL21A106KOQNNNE; Capacitance: 10000000 pF; Supplier 1: Digi-Key; Stock 1: 508450; Pricing 1: 1=0.21, 10=0.149, 100=0.0702, 500=0.0492, 1000=0.0408 (USD); Case Size/Dimension: 0805; Dielectric: X5R; Tolerance (%): ±10 %; Rated Voltage: 16 V; ComponentLink1URL: https://datasheet.ciiva.com/25798/cl21a106koqnnne-25798133.pdf; ComponentLink1Description: https://datasheet.ciiva.com/25798/cl21a106koqnnne-25798133.pdf; ComponentLink2URL: https://datasheet.ciiva.com/16740/cl05b104kq5nnnc-16740697.pdf; ComponentLink2Description: https://datasheet.ciiva.com/16740/cl05b104kq5nnnc-16740697.pdf; ComponentLink3URL: https://datasheet.ciiva.com/15216/getdatasheetpartid-358435-15216234.pdf; ComponentLink3Description: https://datasheet.ciiva.com/15216/getdatasheetpartid-358435-15216234.pdf; Supplier Part Number 1: 1276-1096-1-ND
footprint C0805
pins: 1, 2

## CL21B104KOANNNC
designator C?, comment 0.1uF
Cap Ceramic 0.1uF 16V X7R 10% SMD 0805 125C Paper T/R; Manufacturer: Samsung; Manufacturer Part Number: CL21B104KOANNNC; Capacitance: 0.1 µF; Supplier 1: Digi-Key; Stock 1: 97502; Pricing 1: 1=0.1, 10=0.03, 100=0.0133, 500=0.0095, 1000=0.0074 (USD); Case Size/Dimension: 0805; Dielectric: X7R; Tolerance (%): ±10 %; Rated Voltage: 16 V; ComponentLink1URL: https://datasheet.ciiva.com/25737/cl21b104koannnc-25737216.pdf; ComponentLink1Description: https://datasheet.ciiva.com/25737/cl21b104koannnc-25737216.pdf; ComponentLink2URL: https://datasheet.ciiva.com/16428/cl21b104koannnc-16428868.pdf; ComponentLink2Description: https://datasheet.ciiva.com/16428/cl21b104koannnc-16428868.pdf; Supplier Part Number 1: 1276-2448-6-ND
footprint C0805
pins: 1, 2

## CL21C180JBANNNC
designator C?, comment 18pF
Cap Ceramic 18pF 50V C0G 5% SMD 0805 125C Paper T/R; Manufacturer: Samsung; Manufacturer Part Number: CL21C180JBANNNC; Supplier 1: Digi-Key; Stock 1: 210005; Pricing 1: 1=0.1, 10=0.048, 100=0.0216, 500=0.0154, 1000=0.0121 (USD); Capacitance: 18 pF; Case Size/Dimension: 0805; Dielectric: C0G; Tolerance (%): ±5 %; Rated Voltage: 50 V; ComponentLink1URL: https://datasheet.ciiva.com/25801/cl21c180jbannnc-25801747.pdf; ComponentLink1Description: https://datasheet.ciiva.com/25801/cl21c180jbannnc-25801747.pdf; ComponentLink2URL: https://datasheet.ciiva.com/16216/cl05b104kq5nnnc-16216390.pdf; ComponentLink2Description: https://datasheet.ciiva.com/16216/cl05b104kq5nnnc-16216390.pdf; ComponentLink3URL: https://datasheet.ciiva.com/26838/getdatasheetpartid-666022-26838764.pdf; ComponentLink3Description: https://datasheet.ciiva.com/26838/getdatasheetpartid-666022-26838764.pdf; ComponentLink4URL: https://datasheet.ciiva.com/29199/454764-da-01-en-vs-kondensator-0805-29199527.pdf; ComponentLink4Description: https://datasheet.ciiva.com/29199/454764-da-01-en-vs-kondensator-0805-29199527.pdf; Supplier Part Number 1: 1276-1107-1-ND
footprint C0805
pins: 1, 2

## EMK212BJ225KG-T
designator C?, comment 2.2uF
CAP CER 2.2UF 16V X5R 0805; Manufacturer: Taiyo Yuden; Manufacturer Part Number: EMK212BJ225KG-T; PCN Part Number: X5R, X7R Dielectrics 23/Jan/2008; Catalog Drawings: xMK Series_0805_1.25; Capacitance: 2.2µF; Tolerance: ±10%; Online Catalog: M Series; Kits: 587-1797-KIT-ND  - KIT CAP CER HI CAP 0603 & 0805 S; Other Names: 587-1293-1; Supplier 1: Digi-Key; Stock 1: 391933; Pricing 1: 1=0.16, 10=0.114, 100=0.0534, 500=0.0374, 1000=0.031 (USD); Standard Package: 1; Category: Capacitors; Family: Ceramic Capacitors; Series: M; Packaging: Cut Tape (CT); Voltage - Rated: 16V; Temperature Coefficient: X5R; Mounting Type: Surface Mount, MLCC; Operating Temperature: -55°C ~ 85°C; Applications: General Purpose; Ratings: -; Package / Case: 0805 (2012 Metric); Size / Dimension: 0.079" L x 0.049" W (2.00mm x 1.25mm); Height - Seated (Max): -; Thickness (Max): 0.053" (1.35mm); Lead Spacing: -; Features: -; Lead Style: -; ComponentLink1URL: https://datasheet.ciiva.com/136/emk212bj225kg-t-ss-136098.pdf; ComponentLink1Description: https://datasheet.ciiva.com/136/emk212bj225kg-t-ss-136098.pdf; ComponentLink2URL: https://datasheet.ciiva.com/15920/993emk212bj225kg-t-15920531.pdf; ComponentLink2Description: https://datasheet.ciiva.com/15920/993emk212bj225kg-t-15920531.pdf; ComponentLink3URL: https://datasheet.ciiva.com/26871/getdatasheetpartid-637381-26871380.pdf; ComponentLink3Description: https://datasheet.ciiva.com/26871/getdatasheetpartid-637381-26871380.pdf; ComponentLink4URL: https://datasheet.ciiva.com/5815/1693457-5815977.pdf; ComponentLink4Description: https://datasheet.ciiva.com/5815/1693457-5815977.pdf; ComponentLink5URL: https://datasheet.ciiva.com/30078/125emk212bj225kg-t-30078029.pdf; ComponentLink5Description: https://datasheet.ciiva.com/30078/125emk212bj225kg-t-30078029.pdf; ComponentLink6URL: https://datasheet.ciiva.com/7975/1497285-7975646.pdf; ComponentLink6Description: https://datasheet.ciiva.com/7975/1497285-7975646.pdf; Supplier Part Number 1: 587-1293-1-ND
footprint C0805
pins: 1, 2

## ERJ-6ENF5761V
designator R?, comment 5.76k Ohm
RESISTOR, THICK FILM, 5.76KOHM, 125mW, ± 1%; Manufacturer: Panasonic ECG; Manufacturer Part Number: ERJ-6ENF5761V; Resistance: 5.76 kOhms; Power Rating: 125 mW (1/8 W); Voltage Rating: 150 V; Brand: Panasonic; Qualification: AEC-Q200; Unit Weight: 0.000194 oz; Supplier 1: Digi-Key; Stock 1: 79878; Pricing 1: 1=0.1, 10=0.079, 100=0.0305, 1000=0.0134, 2500=0.0116 (USD); Product Category: Thick Film Resistors; RoHS: True; Tolerance: 1 %; Case Code - in: 0805; Case Code - mm: 2012; Operating Temperature Range: - 55 C to + 155 C; Series: ERJ; Type: Precision Thick Film Resistors SMD; Height: 0.6 mm; Length: 2 mm; Package / Case: 0805 (2012 metric); Packaging: Reel; Product: Thick Film Resistors SMD; Factory Pack Quantity: 5000; Termination Style: SMD/SMT; Width: 1.2 mm; ComponentLink1URL: https://datasheet.ciiva.com/7763/1678782-7763753.pdf; ComponentLink1Description: https://datasheet.ciiva.com/7763/1678782-7763753.pdf; ComponentLink2URL: https://datasheet.ciiva.com/30180/aoa0000ce2-30180170.pdf; ComponentLink2Description: https://datasheet.ciiva.com/30180/aoa0000ce2-30180170.pdf; ComponentLink3URL: https://datasheet.ciiva.com/46420/1678782-46420075.pdf; ComponentLink3Description: https://datasheet.ciiva.com/46420/1678782-46420075.pdf; ComponentLink4URL: https://datasheet.ciiva.com/22668/1678782-22668700.pdf; ComponentLink4Description: https://datasheet.ciiva.com/22668/1678782-22668700.pdf; ComponentLink5URL: https://datasheet.ciiva.com/24129/aoa0000ce2-24129708.pdf; ComponentLink5Description: https://datasheet.ciiva.com/24129/aoa0000ce2-24129708.pdf; ComponentLink6URL: https://datasheet.ciiva.com/9195/aoa0000ce2-9195263.pdf; ComponentLink6Description: https://datasheet.ciiva.com/9195/aoa0000ce2-9195263.pdf; Supplier Part Number 1: P5.76KCCT-ND
footprint R0805
pins: 1, 2

## FT232RL-REEL
designator U?
IC USB FS SERIAL UART 28-SSOP; Manufacturer: FTDI; Number of Channels: 1; Transmit FIFO: 256Byte; Receive  FIFO: 128Byte; Interface Circuit Standard 1: RS-232/RS-422/RS-485; Transmitter and Receiver FIFO Counter: No; Operating Supply Voltage (Typ): 5V; Operating Supply Voltage (Max): 5.25V; Operating Supply Voltage (Min): 3.3V; Supply Current: 15(Typ)mA; Supplier 1: Digi-Key; Manufacturer Part Number: FT232RL-REEL; Stock 1: 133923; Pricing 1: 1=4.5, 10=4.05, 100=3.65, 250=3.25, 500=2.85, 1000=2.65 (USD); Package Type: SSOP; Packaging: Tape and Reel; Mounting: Surface Mount; Pin Count: 28; Operating Temperature (Min): -40C; Operating Temperature (Max): 85C; Operating Temperature Classification: Industrial; ComponentLink1URL: https://datasheet.ciiva.com/34304/2161019-34304054.pdf; ComponentLink1Description: https://datasheet.ciiva.com/34304/2161019-34304054.pdf; ComponentLink2URL: https://datasheet.ciiva.com/1787/ds-ft232r-1787047.pdf; ComponentLink2Description: https://datasheet.ciiva.com/1787/ds-ft232r-1787047.pdf; ComponentLink3URL: https://datasheet.ciiva.com/1787/ds-ft232r-1787048.pdf; ComponentLink3Description: https://datasheet.ciiva.com/1787/ds-ft232r-1787048.pdf; ComponentLink4URL: https://datasheet.ciiva.com/1787/ds-ft232r-1787049.pdf; ComponentLink4Description: https://datasheet.ciiva.com/1787/ds-ft232r-1787049.pdf; ComponentLink5URL: https://datasheet.ciiva.com/4787/ds-ft232r-11534-4787658.pdf; ComponentLink5Description: https://datasheet.ciiva.com/4787/ds-ft232r-11534-4787658.pdf; ComponentLink6URL: https://datasheet.ciiva.com/15150/getdatasheetpartid-643207-15150506.pdf; ComponentLink6Description: https://datasheet.ciiva.com/15150/getdatasheetpartid-643207-15150506.pdf; ComponentLink7URL: https://datasheet.ciiva.com/16200/ds-ft232r-16200652.pdf; ComponentLink7Description: https://datasheet.ciiva.com/16200/ds-ft232r-16200652.pdf; ComponentLink8URL: https://datasheet.ciiva.com/26841/ft232rl-reel-26841080.pdf; ComponentLink8Description: https://datasheet.ciiva.com/26841/ft232rl-reel-26841080.pdf; Supplier Part Number 1: 768-1007-1-ND
footprint SSOP_28
pins: 1 TXD, 2 DTR, 3 RTS, 4 VCCIO, 5 RXD, 6 RI, 7 GND, 8 NC, 9 DSR, 10 DCD, 11 CTS, 12 CBUS4, 13 CBUS2, 14 CBUS3, 15 USBDP, 16 USBDM, 17 3V3OUT, 18 GND, 19 RESET, 20 VCC, 21 GND, 22 CBUS1, 23 CBUS0, 24 NC, 25 AGND, 26 TEST, 27 OSCI, 28 OSCO

## ICM-20602
designator U?
WORLD'S BEST 6-AXIS INTEGRATED S; Manufacturer: InvenSense; Manufacturer Part Number: ICM-20602; Sensor Type: Accelerometer, Gyroscope, Temperature, 6 Axis; Output Type: I²C, SPI; Supplier 1: Digi-Key; Stock 1: 2576; Pricing 1: 1=5.72, 5=5.05, 10=4.46, 25=3.6184, 50=3.1978, 100=3.1136, 500=2.6087, 1000=2.4404 (USD); Category: Sensors, Transducers; Family: Multifunction; Series: -; Operating Temperature: -40°C ~ 85°C (TA); Supplier Part Number 1: 1428-1060-1-ND
footprint LGA
pins: 1, 2, 3, 4, 5, 6, 7, 8, 9, 10, 11, 12, 13, 14, 15, 16

## JTS_11.1V
designator JTS
footprint JTS_11.1V
pins: 1, 2

## LIPO_11.1V
designator LIPO
footprint LIPO_11.1V
pins: 1, 2

## NPC02SXON-RC
designator *
CONN JUMPER SHORTING .100" GOLD; Manufacturer: Sullins; Manufacturer Part Number: NPC02SXON-RC; Gender: Female Sockets; Number of Positions or Pins (Grid): 2 (1 x 2); Pitch: 0.100" (2.54mm); Dynamic Catalog: Shunts and Jumpers - Sullins Connector Solutions; Other Names: S9341; Supplier 1: Digi-Key; Stock 1: 93943; Pricing 1: 1=0.11, 10=0.102, 25=0.0756, 50=0.0648, 100=0.0626, 250=0.054, 500=0.0518, 1000=0.0454, 2500=0.041 (USD); Standard Package: 1,000; Category: Connectors, Interconnects; Family: Shunts, Jumpers; Type: Open Top, Grip; Height: 0.531" (13.49mm); Contact Finish: Gold; Contact Finish Thickness: Flash; Packaging: Bulk; ComponentLink1URL: https://datasheet.ciiva.com/767/289-sxon-11518-767871.pdf; ComponentLink1Description: https://datasheet.ciiva.com/767/289-sxon-11518-767871.pdf; Supplier Part Number 1: S9341-ND

## RC0805FR-073K16L
designator R?, comment 3.16k Ohm
RES SMD 3.16K OHM 1% 1/8W 0805; Manufacturer: Yageo; Manufacturer Part Number: RC0805FR-073K16L; Resistance: 3.16 kOhms; Power Rating: 125 mW (1/8 W); Temperature Coefficient: 100 PPM / C; Voltage Rating: 150 V; Unit Weight: 0.000194 oz; Supplier 1: Digi-Key; Stock 1: 66271; Pricing 1: 1=0.1, 10=0.022, 100=0.0088, 1000=0.004, 2500=0.0034 (USD); Product Category: Thick Film Resistors; RoHS: True; Brand: Yageo; Tolerance: 1 %; Case Code - in: 0805; Case Code - mm: 2012; Operating Temperature Range: - 55 C to + 155 C; Series: RC; Height: 0.5 mm; Length: 2 mm; Package / Case: 0805 (2012 metric); Packaging: Reel; Product: Thick Film Resistors General Purpose; Termination Style: SMD/SMT; Type: General Purpose Chip Resistor Surface Mount; Width: 1.25 mm; ComponentLink1URL: https://datasheet.ciiva.com/2457/pyu-r-int-thick-7-2457284.pdf; ComponentLink1Description: https://datasheet.ciiva.com/2457/pyu-r-int-thick-7-2457284.pdf; ComponentLink2URL: https://datasheet.ciiva.com/2457/pyu-r-int-thick-7-2457285.pdf; ComponentLink2Description: https://datasheet.ciiva.com/2457/pyu-r-int-thick-7-2457285.pdf; ComponentLink3URL: https://datasheet.ciiva.com/2457/pyu-r-int-thick-7-2457286.pdf; ComponentLink3Description: https://datasheet.ciiva.com/2457/pyu-r-int-thick-7-2457286.pdf; ComponentLink4URL: https://datasheet.ciiva.com/12577/rc0805-12577436.pdf; ComponentLink4Description: https://datasheet.ciiva.com/12577/rc0805-12577436.pdf; Supplier Part Number 1: 311-3.16KCRCT-ND
footprint R0805
pins: 1, 2

## RC0805JR-070RL
designator R?, comment 0 Ohms
YAGEO         RC0805JR-070RL             RES, THICK FILM, 0R, 0.125W, 0805; Voltage Rating: 150 V; Temperature Coefficient: 200 PPM / C; Power Rating: 125 mW (1/8 W); Tolerance: 5 %; Supplier 1: Digi-Key; Manufacturer: Yageo; Manufacturer Part Number: RC0805JR-070RL; Stock 1: 5542042; Pricing 1: 1=0.1, 10=0.018, 25=0.0128, 50=0.0096, 100=0.0071, 250=0.0054, 500=0.0044, 1000=0.0032 (USD); Termination Style: SMD/SMT; Product: Thick Film Resistors Zero-Ohm; Resistance: 0 Ohms; Case Code - in: 0805; Case Code - mm: 2012; Series: RC; Operating Temperature Range: - 55 C to + 155 C; Packaging: Reel; ComponentLink1URL: https://datasheet.ciiva.com/7941/1738694-7941861.pdf; ComponentLink1Description: https://datasheet.ciiva.com/7941/1738694-7941861.pdf; ComponentLink2URL: https://datasheet.ciiva.com/7941/1738694-7941862.pdf; ComponentLink2Description: https://datasheet.ciiva.com/7941/1738694-7941862.pdf; ComponentLink3URL: https://datasheet.ciiva.com/11819/0900766b8106beab-11819430.pdf; ComponentLink3Description: https://datasheet.ciiva.com/11819/0900766b8106beab-11819430.pdf; ComponentLink4URL: https://datasheet.ciiva.com/7941/1738694-7941863.pdf; ComponentLink4Description: https://datasheet.ciiva.com/7941/1738694-7941863.pdf; ComponentLink5URL: https://datasheet.ciiva.com/15190/getdatasheetpartid-330685-15190028.pdf; ComponentLink5Description: https://datasheet.ciiva.com/15190/getdatasheetpartid-330685-15190028.pdf; Supplier Part Number 1: 311-0.0ARCT-ND
footprint R0805
pins: 1, 2

## RC0805JR-0710KL
designator R?, comment 10K Ohm
YAGEO         RC0805JR-0710KL             RES, THICK FILM, 10K, 5%, 0.125W, 0805; Resistance: 10kohm; Voltage Rating: 150V; Resistor Case Style: 0805 [2012 Metric]; Power Rating: 250mW; Product Range: RC Series; Temperature Coefficient: ± 100ppm/°C; SVHC: To Be Advised; Supplier 1: Digi-Key; Manufacturer: Yageo; Manufacturer Part Number: RC0805JR-0710KL; Stock 1: 1415081; Pricing 1: 1=0.1, 10=0.019, 100=0.0076, 1000=0.0034, 2500=0.003 (USD); Resistance Tolerance: ± 5%; Packaging: Cut Tape; Resistor Element Type: Thick Film; Automotive Qualification Standard: -; MSL: MSL 1 - Unlimited; ComponentLink1URL: https://datasheet.ciiva.com/7983/444164-7983765.pdf; ComponentLink1Description: https://datasheet.ciiva.com/7983/444164-7983765.pdf; ComponentLink2URL: https://datasheet.ciiva.com/7941/444164-7941870.pdf; ComponentLink2Description: https://datasheet.ciiva.com/7941/444164-7941870.pdf; ComponentLink3URL: https://datasheet.ciiva.com/7941/444164-7941871.pdf; ComponentLink3Description: https://datasheet.ciiva.com/7941/444164-7941871.pdf; Supplier Part Number 1: 311-10KARCT-ND
footprint R0805
pins: 1, 2